# Altium schematic symbol library Components.SchLib: 18 symbols
Pins are listed as number, name and electrical type; pins without a type are passive.

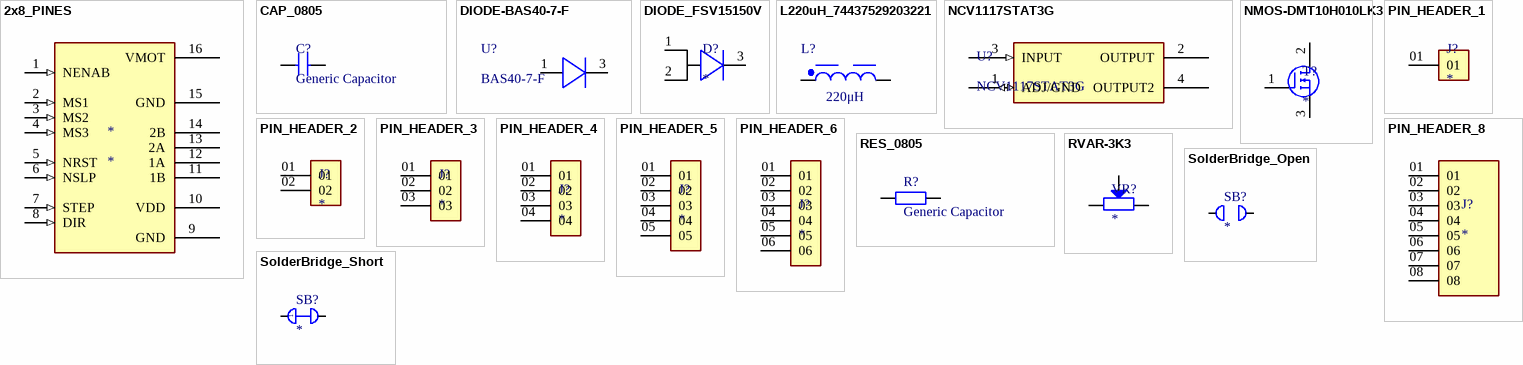
[diagram p0: symbols 2x8_PINES to SolderBridge_Short]

## 2x8_PINES
designator *
footprint PINES8x2-sep
pins: 1 NENAB (in), 2 MS1 (in), 3 MS2 (in), 4 MS3 (in), 5 NRST (in), 6 NSLP (in), 7 STEP (in), 8 DIR (in), 9 GND, 10 VDD, 11 1B, 12 1A, 13 2A, 14 2B, 15 GND, 16 VMOT

## CAP_0805
designator C?, comment Generic Capacitor
footprint RES_0805 (Chip Resistor, 2-Leads, Body 2.00x1.25mm, IPC Medium Density)
pins: 1, 2

## DIODE-BAS40-7-F
designator U?, comment BAS40-7-F
Description; Manufacturer_Name: Diodes Inc; Type: Diodes - Rectifiers, Single; Copyright: Copyright (C) 2025 Ultra Librarian. All rights reserved.; Manufacturer_Part_Number: BAS40-7-F; RefDes: RefDes
footprint SOT-23_DIO-M
pins: 1 A, 3 C

## DIODE_FSV15150V
designator D?
footprint FSV15150V_TO-277
pins: 1 A, 2, 3 C

## L220uH_74437529203221
designator L?, comment 220μH
WE-HCF SMT High Current Inductor, size 2920, 220μH, 8.15A, 40.1mΩ; Manufacturer Part Number: 74437529203221; Manufacturer: Wurth Elektronik; Case/Size Code: 2920; Saturation Current @ 10%: 4.1A; Saturation Current @ 30%: 5.3A; Self Resonant Frequency: 2.8MHz; Category: Power Inductors; Match Code: WE-HCF; ComponentLink1Description: Website Link; ComponentLink1URL: https://www.we-online.com/redexpert/article/74437529203221?ad; ComponentLink2Description: Datasheet Link; ComponentLink2URL: https://www.we-online.com/redexpert/spec/74437529203221?ad; Mount: Surface Mount; Min Operating Temperature: -40°C; Max Operating Temperature: 125°C; Packaging: Tray; Length: 28mm; Width: 25mm; Height: 20.5mm; DC Resistance Max: 40.1mΩ; Inductance: 220μH; Performance Rated Current: 8.15A
footprint WE-HCF_2920
simulation model 2920_74437529203221_220u
pins: 1, 2

## NCV1117STAT3G
designator U?
Description; Manufacturer_Name: onsemi; Copyright: Copyright (C) 2025 Ultra Librarian. All rights reserved.; Manufacturer_Part_Number: NCV1117STAT3G; RefDes: RefDes; Type: Type
footprint SOT223-3_ONS-M
pins: 1 ADJ/GND (io), 2 OUTPUT, 3 INPUT (in), 4 OUTPUT2

## NMOS-DMT10H010LK3
designator T?
footprint MOSFET_TRANS_2DB1184Q-13
pins: 1 G, 2 D, 3 S

## PIN_HEADER_1
designator J?
Generic 40 mils drill size, 100 mils step; MF: Samtec; MP: TS-101-T-AA; SnapEDA_Link: https://www.snapeda.com/parts/TS-101-T-AA/Samtec/view-part/?ref=snap; Package: None; Value: *; Check_prices: https://www.snapeda.com/parts/TS-101-T-AA/Samtec/view-part/?ref=eda
footprint GEN_PIN1 (Generic 40 mils drill size, 100 mils step)
pins: 01

## PIN_HEADER_2
designator J?
Generic 40 mils drill size, 100 mils step; MF: Samtec; MP: TS-102-T-A-1; Value: *; Price: None; Package: None; Check_prices: https://www.snapeda.com/parts/TS-102-T-A-1/Samtec/view-part/?ref=eda; Availability: In Stock; SnapEDA_Link: https://www.snapeda.com/parts/TS-102-T-A-1/Samtec/view-part/?ref=snap; Purchase-URL: https://pricing.snapeda.com/search/part/TS-102-T-A-1/?ref=eda
footprint GEN_PIN2 (Generic 40 mils drill size, 100 mils step)
pins: 01, 02

## PIN_HEADER_3
designator J?
Generic 40 mils drill size, 100 mils step; MF: Samtec Inc.; MP: TS-103-T-A; SnapEDA_Link: https://www.snapeda.com/parts/TS-103-T-A/Samtec+Inc./view-part/?ref=snap; Package: None; Value: *; Check_prices: https://www.snapeda.com/parts/TS-103-T-A/Samtec+Inc./view-part/?ref=eda
footprint GEN_PIN3 (Generic 40 mils drill size, 100 mils step)
pins: 01, 02, 03

## PIN_HEADER_4
designator J?
Generic 40 mils drill size, 100 mils step; MF: Samtec Inc.; MP: TS-104-T-A; Check_prices: https://www.snapeda.com/parts/TS-104-T-A/Samtec+Inc./view-part/?ref=eda; Value: *; Availability: In Stock; Price: None; Package: None; SnapEDA_Link: https://www.snapeda.com/parts/TS-104-T-A/Samtec+Inc./view-part/?ref=snap; Purchase-URL: https://pricing.snapeda.com/search/part/TS-104-T-A/?ref=eda
footprint GEN_PIN4 (Generic 40 mils drill size, 100 mils step)
pins: 01, 02, 03, 04

## PIN_HEADER_5
designator J?
Generic 40 mils drill size, 100 mils step; MF: Samtec Inc.; MP: TS-105-T-A; Package: None; Check_prices: https://www.snapeda.com/parts/TS-105-T-A/Samtec+Inc./view-part/?ref=eda; Availability: In Stock; Value: *; Purchase-URL: https://pricing.snapeda.com/search/part/TS-105-T-A/?ref=eda; Price: None; SnapEDA_Link: https://www.snapeda.com/parts/TS-105-T-A/Samtec+Inc./view-part/?ref=snap
footprint GEN_PIN5 (Generic 40 mils drill size, 100 mils step)
pins: 01, 02, 03, 04, 05

## PIN_HEADER_6
designator J?
Generic 40 mils drill size, 100 mils step; MF: Samtec Inc.; MP: TS-106-T-A; SnapEDA_Link: https://www.snapeda.com/parts/TS-106-T-A/Samtec+Inc./view-part/?ref=snap; Package: None; Value: *; Check_prices: https://www.snapeda.com/parts/TS-106-T-A/Samtec+Inc./view-part/?ref=eda
footprint GEN_PIN6 (Generic 40 mils drill size, 100 mils step)
pins: 01, 02, 03, 04, 05, 06

## PIN_HEADER_8
designator J?
Generic 40 mils drill size, 100 mils step; MF: Samtec; MP: TS-108-T-A; SnapEDA_Link: https://www.snapeda.com/parts/TS-108-T-A/Samtec/view-part/?ref=snap; Package: None; Value: *; Check_prices: https://www.snapeda.com/parts/TS-108-T-A/Samtec/view-part/?ref=eda
footprint GEN_PIN8 (Generic 40 mils drill size, 100 mils step)
pins: 01, 02, 03, 04, 05, 06, 07, 08

## RES_0805
designator R?, comment Generic Capacitor
footprint RES_0805 (Chip Resistor, 2-Leads, Body 2.00x1.25mm, IPC Medium Density)
pins: 1, 2

## RVAR-3K3
designator VR?
3/8 Sq, Thru-Hole, TRIMMER, 3.3 Kilohms, Cermet, 25 Turns, Pwr-Rtg 0.5W | Bourns 3296W-1-332LF; SnapEDA_Link: https://www.snapeda.com/parts/3296W-1-332LF/Bourns/view-part/?ref=snap; Package: NON STANDARD-3 Bourns; Value: *; MF: Bourns; MP: 3296W-1-332LF; Check_prices: https://www.snapeda.com/parts/3296W-1-332LF/Bourns/view-part/?ref=eda
footprint TRIM_3296W-1-332LF
pins: 1 CCW, 2 WIPER, 3 CW

## SolderBridge_Open
designator SB?
footprint SolderBridge_Open
pins: 1, 2

## SolderBridge_Short
designator SB?
footprint SolderBridge_Short
pins: 1, 2